# EAGLE library part 5X8 (library dotmatrix)
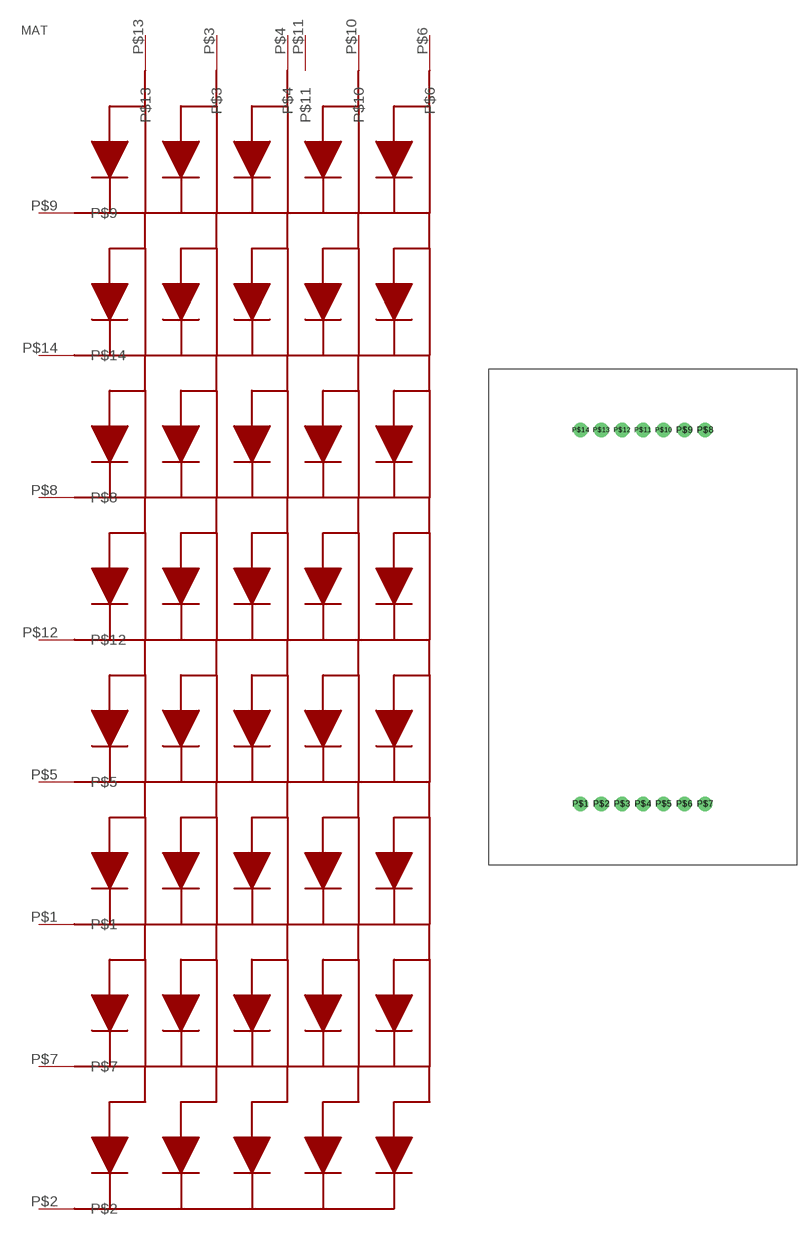
[diagram p0: symbol with the pads of 5X8; footprint 5X8]

Designator prefix MAT

## 5X8  [5X8]
P$1  P$1
P$2  P$2
P$3  P$3
P$4  P$4
P$5  P$5
P$6  P$6
P$7  P$7
P$8  P$8
P$9  P$9
P$10  P$10
P$11  P$11
P$12  P$12
P$13  P$13
P$14  P$14

## Footprint 5X8 (pad centres in mm)
drill 0.7 pad 1.778: P$1 -7.62,-22.86; P$2 -5.08,-22.86; P$3 -2.54,-22.86; P$4 0,-22.86; P$5 2.54,-22.86; P$6 5.08,-22.86; P$7 7.62,-22.86; P$8 7.62,22.86; P$9 5.08,22.86; P$10 2.54,22.86; P$11 0,22.86; P$12 -2.54,22.86; P$13 -5.08,22.86; P$14 -7.62,22.86